# Altium schematic symbol library J104D2C3VDCP20S.SchLib: 2 symbols
Pins are listed as number, name and electrical type; pins without a type are passive.

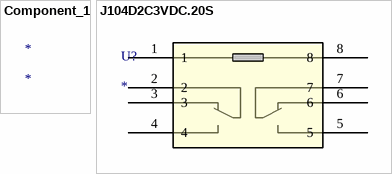
[diagram p0: symbols Component_1 to J104D2C3VDC.20S]

## Component_1
designator *

## J104D2C3VDC.20S
designator U?
No Description Available; Mfr_Name: CIT Relay & Switch; RefDes: RefDes; Type: Type
footprint RELAY_J104D2C3VDC.20S_CRS
pins: 1, 2, 3, 4, 5, 6, 7, 8